# Altium schematic symbol library KTYPE TC CONN.SchLib: 1 symbol
Pins are listed as number, name and electrical type; pins without a type are passive.

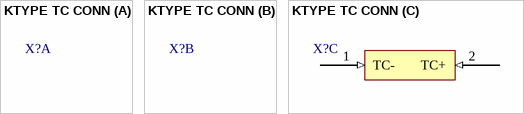
[diagram p0: symbol KTYPE TC CONN]

## KTYPE TC CONN
designator X?
part C pins: 1 TC- (in), 2 TC+ (in)